# Altium footprint library Connectors D-Sub.PcbLib: 4 footprints
Each footprint in its own frame and in the unit in brackets; x right, y up, seen from the top. Pads: shape width x height; smd on the part's side, far side on the other; paste and mask are expansions set on the pad; w line width, h text height; cw(c..) or ccw(c..) is an arc to the next point about the centre after c.
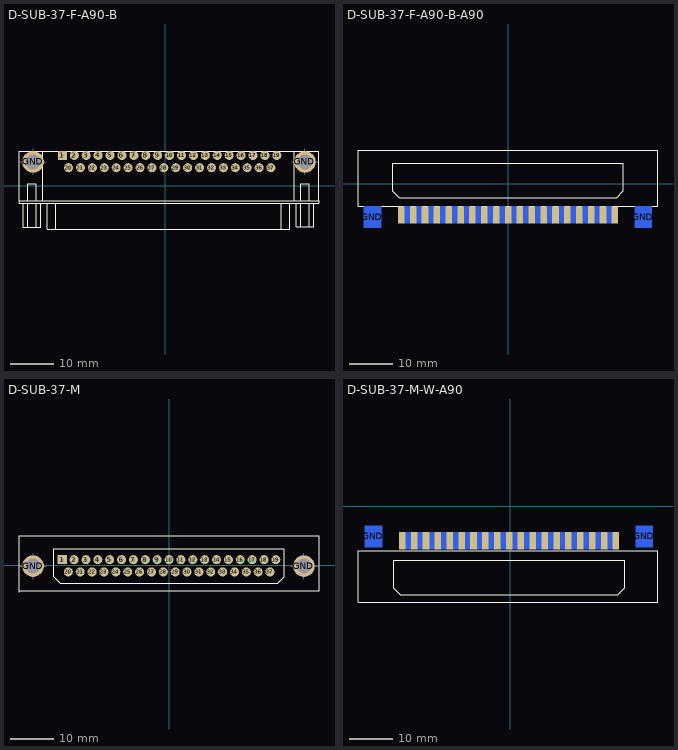
[diagram p0: the footprints below, top view; thin cyan lines are the x and y axes]

## D-SUB-37-F-A90-B [mm]
height 12.5
pads (39):
  rect 2.1x2.1 hole 0.762: 1(-23.75,7)
  round 2.1 hole 0.762: 2(-21,7) 3(-18.25,7) 4(-15.5,7) 5(-12.75,7) 6(-10,7) 7(-7.25,7) 8(-4.5,7) 9(-1.75,7) 10(1,7) 11(3.75,7) 12(6.5,7) 13(9.25,7) 14(12,7) 15(14.75,7) 16(17.5,7) 17(20.25,7) 18(23,7) 19(25.75,7) 20(-22.335,4.16) 21(-19.585,4.16) 22(-16.835,4.16) 23(-14.085,4.16) 24(-11.335,4.16) 25(-8.585,4.16) 26(-5.835,4.16) 27(-3.085,4.16) 28(-0.335,4.16) 29(2.415,4.16) 30(5.165,4.16) 31(7.915,4.16) 32(10.665,4.16) 33(13.415,4.16) 34(16.165,4.16) 35(18.915,4.16) 36(21.665,4.16) 37(24.375,4.16)
  round 5 hole 3.5: GND(-30.511,5.5) GND(32.25,5.5)
Top Overlay:
  lines w0.1: -25.25,-10 -25.25,-4 ; 26.75,-10 26.75,-4 ; 28.75,-10 28.75,-4.072
  lines w0.254: -32.75,-4.083 -32.75,-9.583 -28.75,-9.583 -28.75,-4.083 ; -31.75,-9.583 -31.75,-4.083 ; -31.75,-3.5 -31.75,0.417 -29.75,0.417 -29.75,-3.5 ; -29.75,-9.583 -29.75,-4.083 ; -28.25,-3.417 -28.25,8 ; 29.75,-3.417 29.75,8 ; 30.25,-4 30.25,-9.5 34.25,-9.5 34.25,-4 ; 31.25,-9.5 31.25,-4 ; 31.25,-3.417 31.25,0.5 33.25,0.5 33.25,-3.417 ; 31.75,8 35.489,8 ; 33.25,-9.5 33.25,-4 ; -33.769,-3.417 -33.769,7.981 -33.75,8 -28.25,8 ; -33.769,-3.417 35.489,-3.417 ; -33.769,-3.417 -33.769,-4 35.489,-4 35.489,-3.417 ; -28.25,8 29.75,8 ; 29.75,8 35.489,8 ; 35.489,-3.417 35.489,8 ; -27.25,-10 -27.25,-4.072 28.75,-4.072 28.75,-10 -27.25,-10
Top Package:
  lines w0.254: -33.75,5.5 -27.511,5.5 ; -30.511,2.5 -30.511,8.5 ; 29.25,5.5 35.489,5.5 ; 32.25,2.5 32.25,8.5
3D body "User Library-37PinD-Sub.step": height 3.43, standoff -13.31, extent -33.75,-10.381 35.719,7.5

## D-SUB-37-F-A90-B-A90 [mm]
height 12.5
pads (39):
  rect 1.524x4 smd: 1(-24.75,-7.25) 2(-22,-7.25) 3(-19.25,-7.25) 4(-16.5,-7.25) 5(-13.75,-7.25) 6(-11,-7.25) 7(-8.25,-7.25) 8(-5.5,-7.25) 9(-2.75,-7.25) 10(0,-7.25) 11(2.75,-7.25) 12(5.5,-7.25) 13(8.25,-7.25) 14(11,-7.25) 15(13.75,-7.25) 16(16.5,-7.25) 17(19.25,-7.25) 18(22,-7.25) 19(24.75,-7.25)
  rect 1.524x4 smd far side: 20(-23.35,-7.24) 21(-20.6,-7.24) 22(-17.85,-7.24) 23(-15.1,-7.24) 24(-12.35,-7.24) 25(-9.6,-7.24) 26(-6.85,-7.24) 27(-4.1,-7.24) 28(-1.35,-7.24) 29(1.4,-7.24) 30(4.15,-7.24) 31(6.9,-7.24) 32(9.65,-7.24) 33(12.4,-7.24) 34(15.15,-7.24) 35(17.9,-7.24) 36(20.65,-7.24) 37(23.375,-7.24)
  rect 4x5 smd far side: GND(-31.436,-7.75) GND(31.325,-7.75)
Top Overlay:
  lines w0.1: -26.75,-1.733 -25.233,-3.25 25.174,-3.25 26.75,-1.674 26.75,4.75 -26.75,4.75 -26.75,-1.733
  lines w0.254: 30.75,-5.25 34.489,-5.25 ; -34.769,-5.269 -34.769,7.731 -34.75,7.75 34.75,7.75 34.75,-5.25 28.75,-5.25 -29.25,-5.25 -34.75,-5.25 -34.769,-5.269
3D body "User Library-37PinD-Sub.step": height 15.93, standoff -1.95, extent -34.719,-9.119 34.75,7.619

## D-SUB-37-M [mm]
height 8
pads (39):
  rect 2.1x2.1 hole 0.762: 1(-24.75,1.25)
  round 2.1 hole 0.762: 2(-22,1.25) 3(-19.25,1.25) 4(-16.5,1.25) 5(-13.75,1.25) 6(-11,1.25) 7(-8.25,1.25) 8(-5.5,1.25) 9(-2.75,1.25) 10(0,1.25) 11(2.75,1.25) 12(5.5,1.25) 13(8.25,1.25) 14(11,1.25) 15(13.75,1.25) 16(16.5,1.25) 17(19.25,1.25) 18(22,1.25) 19(24.75,1.25) 20(-23.335,-1.59) 21(-20.585,-1.59) 22(-17.835,-1.59) 23(-15.085,-1.59) 24(-12.335,-1.59) 25(-9.585,-1.59) 26(-6.835,-1.59) 27(-4.085,-1.59) 28(-1.335,-1.59) 29(1.415,-1.59) 30(4.165,-1.59) 31(6.915,-1.59) 32(9.665,-1.59) 33(12.415,-1.59) 34(15.165,-1.59) 35(17.915,-1.59) 36(20.665,-1.59) 37(23.375,-1.59)
  round 5 hole 3.5: GND(-31.511,-0.25) GND(31.25,-0.25)
Top Overlay:
  lines w0.1: -26.75,-2.733 -25.233,-4.25 25.174,-4.25 26.75,-2.674 26.75,3.75 -26.75,3.75 -26.75,-2.733
  lines w0.254: -34.769,-6.269 -34.769,6.731 -34.75,6.75 34.75,6.75 34.75,-6 -34.769,-6 -34.769,2.231 -34.75,2.25
Top Package:
  lines w0.254: -34.75,-0.25 -28.511,-0.25 ; -31.511,-3.25 -31.511,2.75 ; 28.25,-0.25 34.489,-0.25 ; 31.25,-3.25 31.25,2.75
3D body "connector_a-ds_37_pp_z.stp": height 12.8, standoff -4.4, extent -34.66,-6.525 34.66,6.025

## D-SUB-37-M-W-A90 [mm]
height 8
pads (39):
  rect 1.524x4 smd: 1(-25,-8) 2(-22.25,-8) 3(-19.5,-8) 4(-16.75,-8) 5(-14,-8) 6(-11.25,-8) 7(-8.5,-8) 8(-5.75,-8) 9(-3,-8) 10(-0.25,-8) 11(2.5,-8) 12(5.25,-8) 13(8,-8) 14(10.75,-8) 15(13.5,-8) 16(16.25,-8) 17(19,-8) 18(21.75,-8) 19(24.5,-8)
  rect 1.524x4 smd far side: 20(-23.6,-7.99) 21(-20.85,-7.99) 22(-18.1,-7.99) 23(-15.35,-7.99) 24(-12.6,-7.99) 25(-9.85,-7.99) 26(-7.1,-7.99) 27(-4.35,-7.99) 28(-1.6,-7.99) 29(1.15,-7.99) 30(3.9,-7.99) 31(6.65,-7.99) 32(9.4,-7.99) 33(12.15,-7.99) 34(14.9,-7.99) 35(17.65,-7.99) 36(20.4,-7.99) 37(23.125,-7.99)
  rect 4x5 smd far side: GND(-31.686,-7) GND(31.075,-7)
Top Overlay:
  lines w0.1: -27,-18.983 -27,-12.5 26.5,-12.5 26.5,-18.924 24.924,-20.5 -25.483,-20.5 -27,-18.983
  lines w0.254: 30.25,-22.25 33.989,-22.25 ; -35.25,-22.25 28.25,-22.25 34.25,-22.25 34.25,-10.25 -35.25,-10.25 -35.25,-22.25
3D body "connector_a-ds_37_pp_z.stp": height 6.27, standoff -6.27, extent -35.16,-23.55 34.16,-6.35